# EAGLE library part 2EDN8533FXTMA1 (library 2EDN8533FXTMA1)
DRIVER IC PG-DSO-8 Source: Datasheet <https://www.infineon.com/cms/en/product/power/gate-driver-ics/?>
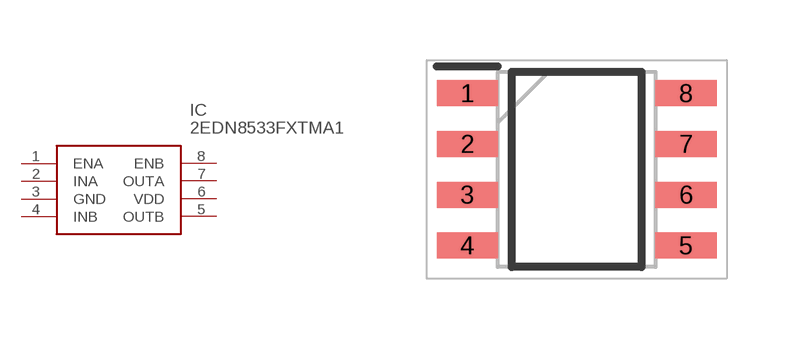
[diagram p0: symbol with the pads of SOIC127P602X173-8N; footprint SOIC127P602X173-8N]

Designator prefix IC

## 2EDN8533FXTMA1 (Description: DRIVER IC PG-DSO-8; Height: 1.73mm; Manufacturer_Name: Infineon; Manufacturer_Part_Number: 2EDN8533FXTMA1)  [SOIC127P602X173-8N]
1  ENA
2  INA
3  GND
4  INB
5  OUTB
6  VDD
7  OUTA
8  ENB

## Footprint SOIC127P602X173-8N (pad centres in mm)
PG-DSO-8,.
smd 1.53 x 0.65: 1 -2.735,1.905; 2 -2.735,0.635; 3 -2.735,-0.635; 4 -2.735,-1.905; 5 2.735,-1.905; 6 2.735,-0.635; 7 2.735,0.635; 8 2.735,1.905